# EAGLE library part 1725698 (library 154N_NAU7802_TH)
6 way PCB vertical mount terminal,2.54mm 6 way PCB vertical mount terminal,2.54mm Source: Datasheet
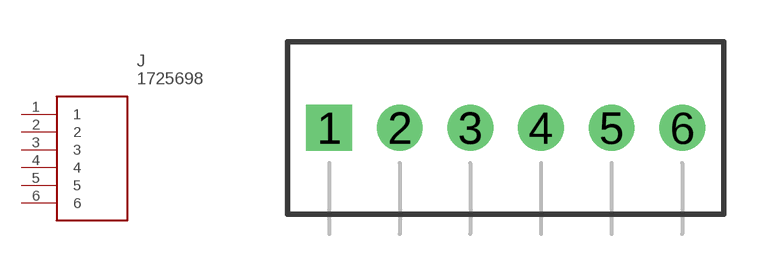
[diagram p2: symbol with the pads of SHDR6W90P0X254_1X6_1570X620X85; footprint SHDR6W90P0X254_1X6_1570X620X85]

Designator prefix J

## 1725698 (ALLIED_NUMBER: 70054339; DESCRIPTION: 6 way PCB vertical mount terminal,2.54mm 6 way PCB vertical mount terminal,2.54mm; HEIGHT: 8.5mm; MANUFACTURER_NAME: Phoenix Contact; MANUFACTURER_PART_NUMBER: 1725698; RS_PART_NUMBER: 3909045; RS_PRICE-STOCK: https://uk.rs-online.com/web/p/products/3909045)  [SHDR6W90P0X254_1X6_1570X620X85]
1  1
2  2
3  3
4  4
5  5
6  6

## Footprint SHDR6W90P0X254_1X6_1570X620X85 (pad centres in mm)
1725698
drill 1.1 pad 1.65 square: 1 0,0
drill 1.1 pad 1.65: 2 2.54,0; 3 5.08,0; 4 7.62,0; 5 10.16,0; 6 12.7,0